# Altium schematic symbol library 54-00127.SchLib: 1 symbol
Pins are listed as number, name and electrical type; pins without a type are passive.

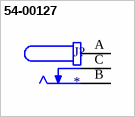
[diagram p0: symbol 54-00127]

## 54-00127
designator J?
Connector, dc jack 5.5x2.1 mm, PCB mount, 90 degrees, silver plated, thru hole; MF: Tensility International Corp; MP: 54-00127; Package: None; Price: None; Check_prices: https://www.snapeda.com/parts/54-00127/Tensility+International+Corp/view-part/?ref=eda; Value: *; SnapEDA_Link: https://www.snapeda.com/parts/54-00127/Tensility+International+Corp/view-part/?ref=snap; Availability: In Stock; Purchase-URL: https://pricing.snapeda.com/search?q=54-00127&ref=eda
footprint TENSILITY_54-00127
pins: A, B, C